# EAGLE library part F09HP (library sub-d)
SUB-D
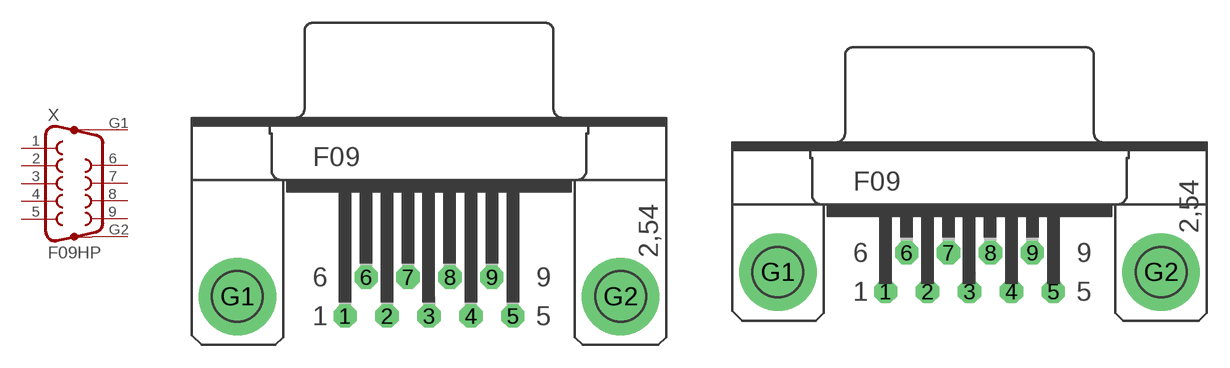
[diagram p0: symbol with the pads of F09HP; footprints F09HP, F09HP-7.2]

Designator prefix X

## F09HP-9.4  [F09HP]
1  1  pas
2  2  pas
3  3  pas
4  4  pas
5  5  pas
6  6  pas
7  7  pas
8  8  pas
9  9  pas
G1  G1  pas
G2  G2  pas

## F09HP-7.2  [F09HP-7.2]
Pads as for F09HP

## Footprint F09HP (pad centres in mm)
SUB-D
drill 1 octagon: 1 -5.486,-1.27; 2 -2.743,-1.27; 3 0,-1.27; 4 2.743,-1.27; 5 5.486,-1.27; 6 -4.115,1.27; 7 -1.372,1.27; 8 1.372,1.27; 9 4.115,1.27
drill 3.3 pad 5.08 round: G1 -12.522,0; G2 12.522,0

## Footprint F09HP-7.2 (pad centres in mm)
drill 1 octagon: 1 -5.486,-2.54; 2 -2.743,-2.54; 3 0,-2.54; 4 2.743,-2.54; 5 5.486,-2.54; 6 -4.115,0; 7 -1.372,0; 8 1.372,0; 9 4.115,0
drill 3.3 pad 5.08 round: G1 -12.522,-1.27; G2 12.522,-1.27